# Altium footprint library Kondensator_DIP.PcbLib: 222 footprints (part 2 of 14)
Each footprint in its own frame and in the unit in brackets; x right, y up, seen from the top. Pads: shape width x height; smd on the part's side, far side on the other; paste and mask are expansions set on the pad; w line width, h text height; cw(c..) or ccw(c..) is an arc to the next point about the centre after c.
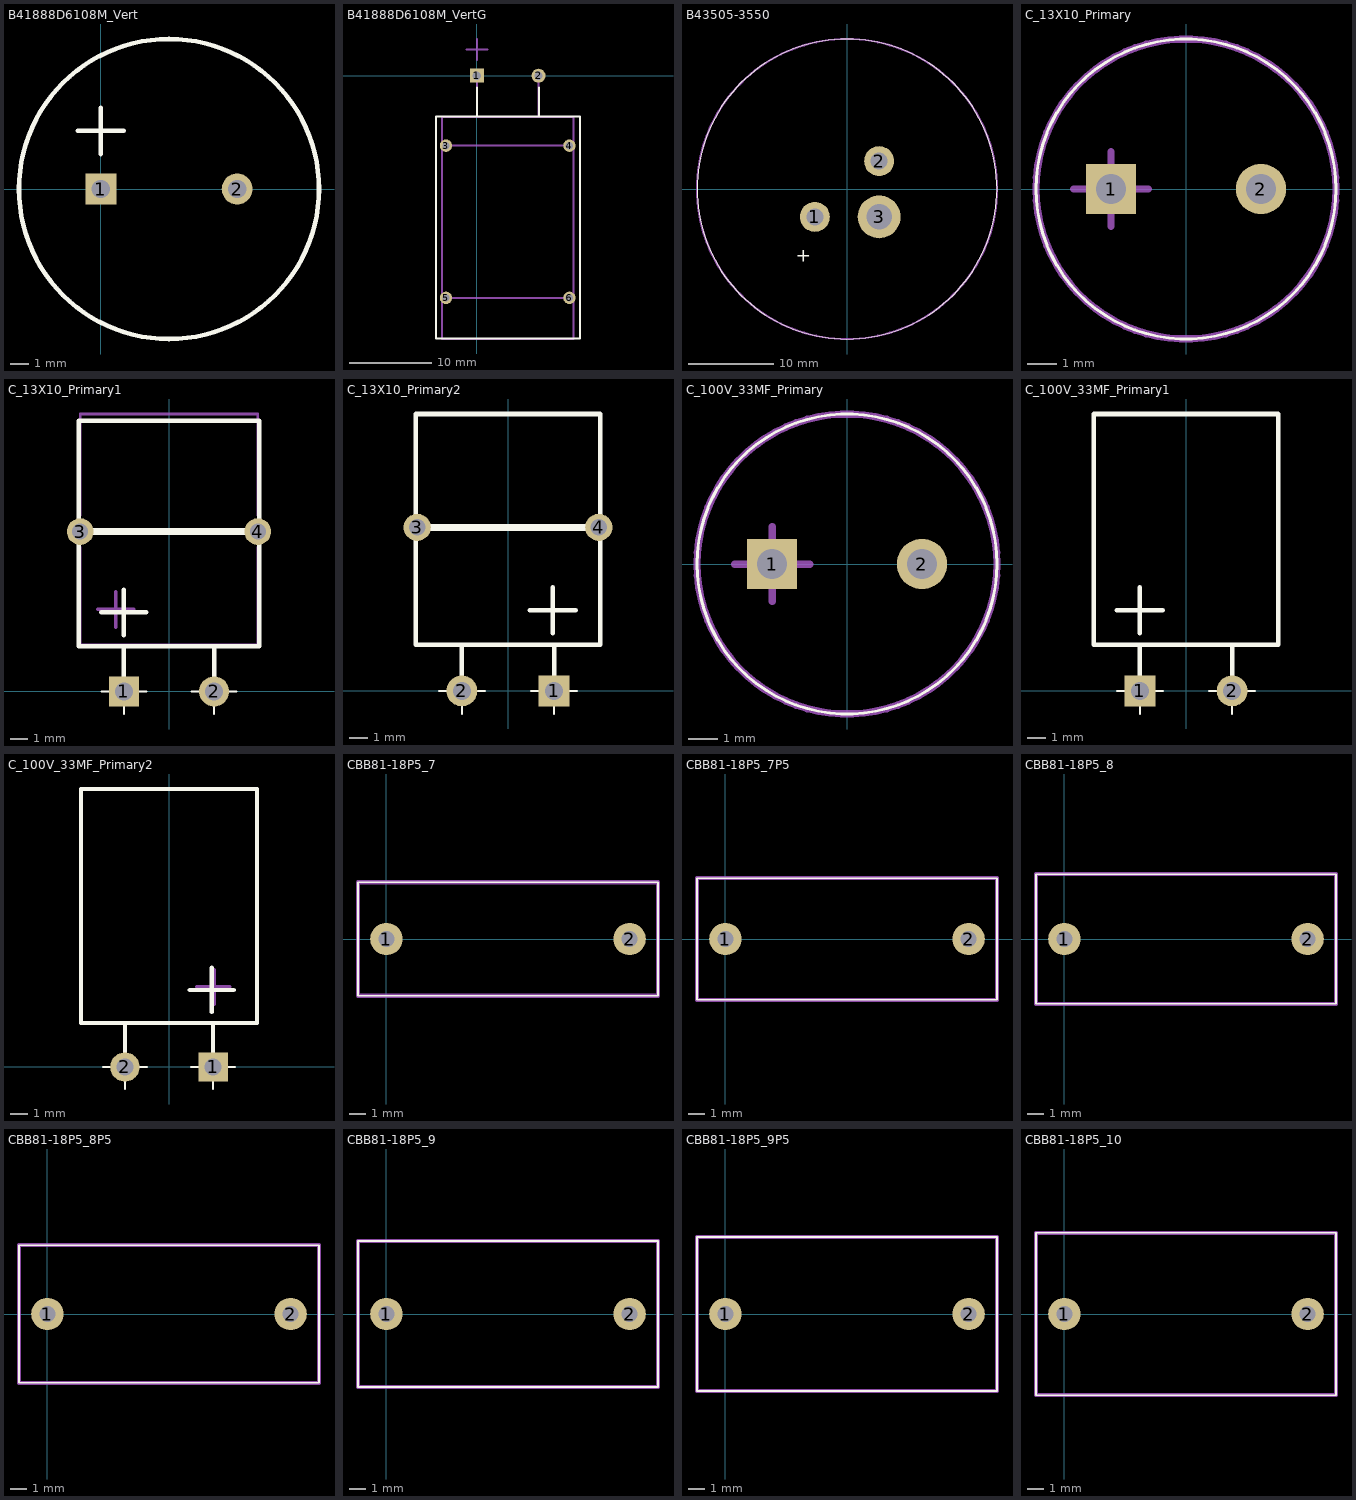
[diagram p1: the footprints below, top view; thin cyan lines are the x and y axes]

## B41888D6108M_Vert [mm]
pads (2):
  rect 1.7x1.7 hole 1: 1(0,0)
  round 1.7 hole 1: 2(7.5,0)
Top Overlay:
  circle w0.25: c3.75,0 r8.25
  lines w0.254: -1.27,3.195 1.27,3.195 ; 0,1.925 0,4.465
Mechanical 1:
  circle w0.15: c3.75,0 r8.25
  lines w0.2: -1.27,3.195 1.27,3.195 ; 0,1.925 0,4.465

## B41888D6108M_VertG [mm]
pads (6):
  rect 1.7x1.7 hole 1: 1(0,0)
  round 1.7 hole 1: 2(7.5,0)
  round 1.5 hole 0.9: 3(-3.75,-8.5) 4(11.25,-8.5) 5(-3.75,-27) 6(11.25,-27)
Top Overlay:
  lines w0.25: 0.04,-4.95 0.04,-1.45 ; 7.54,-4.95 7.54,-1.45 ; -4.96,-31.95 12.54,-31.95 12.54,-4.95 -4.96,-4.95 -4.96,-31.95
Mechanical 1:
  lines w0.25: -4.25,-27 11.75,-27 ; -4.25,-8.5 11.75,-8.5 ; 0,-5 0,0 ; 7.5,-5 7.5,0 ; -4.25,-32 11.75,-32 11.75,-5 -4.25,-5 -4.25,-32
  lines w0.254: -1.27,3.195 1.27,3.195 ; 0,1.925 0,4.465

## B43505-3550 [mm]
pads (3):
  round 3.5 hole 2: 1(-3.75,-3.25) 2(3.75,3.25)
  round 5 hole 3: 3(3.75,-3.25)
Top Overlay:
  lines w0.1: -17.5,0 cw(c0,0) 17.5,0 cw(c0,0) -17.5,0
  text "+" at -6,-8.5 h1.59
Mechanical 1:
  lines w0.25: -17.5,0 cw(c0,0) 17.5,0 cw(c0,0) -17.5,0
  text "+" at -6,-8.5 h1.59

## C_13X10_Primary [mm]
pads (2):
  rect 1.7x1.7 hole 1: 1(-2.54,0)
  round 1.7 hole 1: 2(2.54,0)
Top Overlay:
  circle w0.1: c0,0 r5.08
Mechanical 1:
  circle w0.25: c0,0 r5.08
  lines w0.25: -3.81,0 -1.27,0 ; -2.54,-1.27 -2.54,1.27

## C_13X10_Primary1 [mm]
pads (4):
  rect 1.7x1.7 hole 1: 1(-2.54,0)
  round 1.7 hole 1: 2(2.54,0)
  round 1.5 hole 0.9: 3(-5,9) 4(5,9)
Top Overlay:
  lines w0.1: -3.81,0 -1.27,0 ; -2.54,-1.27 -2.54,0 ; 1.27,0 3.81,0 ; 2.54,-1.27 2.54,0
  lines w0.254: -3.81,4.445 -1.27,4.445 ; -2.54,0 -2.54,2.54 ; -2.54,3.175 -2.54,5.715 ; 2.54,0 2.54,2.54 ; -5.08,2.54 5.08,2.54 5.08,15.24 -5.08,15.24 -5.08,2.54
  lines w0.4: -5.4,9 5.4,9
Mechanical 1:
  lines w0.15: -5,8.12 -5,7.62 -5,2.62 5,2.62 5,7.62 5,8.12 ; -5,9.92 -5,10.12 -5,10.62 -5,15.62 5,15.62 5,10.62 5,9.92 ; -2.5,1.12 -2.5,2.62 ; 2.5,1.12 2.5,2.62
  lines w0.2: -4,4.62 -2,4.62 ; -3,3.62 -3,5.62
  lines w0.3: -4,9.02 4,9.02

## C_13X10_Primary2 [mm]
pads (4):
  rect 1.7x1.7 hole 1: 1(2.54,0)
  round 1.7 hole 1: 2(-2.54,0)
  round 1.5 hole 0.9: 3(-5,9) 4(5,9)
Top Overlay:
  lines w0.1: -3.81,0 -1.27,0 ; -2.54,-1.27 -2.54,0 ; 1.27,0 3.81,0 ; 2.54,-1.27 2.54,0
  lines w0.254: -2.54,0 -2.54,2.54 ; 1.19,4.445 3.73,4.445 ; 2.46,3.175 2.46,5.715 ; 2.54,0 2.54,2.54 ; -5.08,2.54 5.08,2.54 5.08,15.24 -5.08,15.24 -5.08,2.54
  lines w0.4: -5.4,9 5.4,9

## C_100V_33MF_Primary [mm]
pads (2):
  rect 1.7x1.7 hole 1: 1(-2.54,0)
  round 1.7 hole 1: 2(2.54,0)
Top Overlay:
  circle w0.1: c0,0 r5.08
Mechanical 1:
  circle w0.25: c0,0 r5.08
  lines w0.254: -3.81,0 -1.27,0 ; -2.54,-1.27 -2.54,1.27

## C_100V_33MF_Primary1 [mm]
pads (2):
  rect 1.7x1.7 hole 1: 1(-2.54,0)
  round 1.7 hole 1: 2(2.54,0)
Top Overlay:
  lines w0.1: -3.81,0 -1.27,0 ; -2.54,-1.27 -2.54,0 ; 1.27,0 3.81,0 ; 2.54,-1.27 2.54,0
  lines w0.254: -3.81,4.445 -1.27,4.445 ; -2.54,0 -2.54,2.54 ; -2.54,3.175 -2.54,5.715 ; 2.54,0 2.54,2.54 ; -5.08,2.54 5.08,2.54 5.08,15.24 -5.08,15.24 -5.08,2.54

## C_100V_33MF_Primary2 [mm]
pads (2):
  rect 1.7x1.7 hole 1: 1(2.54,0)
  round 1.7 hole 1: 2(-2.54,0)
Top Overlay:
  lines w0.1: -3.81,0 -1.27,0 ; -2.54,-1.27 -2.54,0 ; 1.27,0 3.81,0 ; 2.54,-1.27 2.54,0
  lines w0.254: -2.54,0 -2.54,2.54 ; 1.19,4.445 3.73,4.445 ; 2.46,3.175 2.46,5.715 ; 2.54,0 2.54,2.54 ; -5.08,2.54 5.08,2.54 5.08,16.04 -5.08,16.04 -5.08,2.54
Mechanical 1:
  lines w0.15: -2.5,1.12 -2.5,2.52 ; 2.5,1.22 2.5,2.52 ; -5.08,2.54 5.08,2.54 5.08,16.04 -5.08,16.04 -5.08,2.54
  lines w0.2: 1.6,4.62 3.5,4.62 ; 2.6,3.62 2.6,5.62

## CBB81-18P5_7 [mm]
pads (2):
  round 2 hole 1: 1(0,0) 2(15,0)
Top Overlay:
  lines w0.1: -1.75,-3.5 16.75,-3.5 16.75,3.5 -1.75,3.5 -1.75,-3.5
Mechanical 1:
  lines w0.25: -1.75,-3.5 16.75,-3.5 16.75,0 16.75,3.5 -1.75,3.5 -1.75,0 -1.75,-3.5

## CBB81-18P5_7P5 [mm]
pads (2):
  round 2 hole 1: 1(0,0) 2(15,0)
Top Overlay:
  lines w0.1: -1.75,-3.75 16.75,-3.75 16.75,3.75 -1.75,3.75 -1.75,-3.75
Mechanical 1:
  lines w0.25: -1.75,-3.75 16.75,-3.75 16.75,3.75 -1.75,3.75 -1.75,-3.75

## CBB81-18P5_8 [mm]
pads (2):
  round 2 hole 1: 1(0,0) 2(15,0)
Top Overlay:
  lines w0.1: -1.75,-4 16.75,-4 16.75,4 -1.75,4 -1.75,-4
Mechanical 1:
  lines w0.25: -1.75,-4 16.75,-4 16.75,4 -1.75,4 -1.75,-4

## CBB81-18P5_8P5 [mm]
pads (2):
  round 2 hole 1: 1(0,0) 2(15,0)
Top Overlay:
  lines w0.1: -1.75,-4.25 16.75,-4.25 16.75,4.25 -1.75,4.25 -1.75,-4.25
Mechanical 1:
  lines w0.25: -1.75,-4.25 16.75,-4.25 16.75,4.25 -1.75,4.25 -1.75,-4.25

## CBB81-18P5_9 [mm]
pads (2):
  round 2 hole 1: 1(0,0) 2(15,0)
Top Overlay:
  lines w0.1: -1.75,-4.5 16.75,-4.5 16.75,4.5 -1.75,4.5 -1.75,-4.5
Mechanical 1:
  lines w0.25: -1.75,-4.5 16.75,-4.5 16.75,4.5 -1.75,4.5 -1.75,-4.5

## CBB81-18P5_9P5 [mm]
pads (2):
  round 2 hole 1: 1(0,0) 2(15,0)
Top Overlay:
  lines w0.1: -1.75,-4.75 16.75,-4.75 16.75,4.75 -1.75,4.75 -1.75,-4.75
Mechanical 1:
  lines w0.25: -1.75,-4.75 16.75,-4.75 16.75,4.75 -1.75,4.75 -1.75,-4.75

## CBB81-18P5_10 [mm]
pads (2):
  round 2 hole 1: 1(0,0) 2(15,0)
Top Overlay:
  lines w0.1: -1.75,-5 16.75,-5 16.75,5 -1.75,5 -1.75,-5
Mechanical 1:
  lines w0.25: -1.75,-5 16.75,-5 16.75,5 -1.75,5 -1.75,-5